# EAGLE library part 690357281276 (library WR-MM)
WR-MM Male SMT Connector w/o Latch & w/o Polarization Material Properties Insulator Material PBT Insulator Flammability Rating UL94 V-0 Insulator Color Red Contact Material Phosphor Bronze Contact Plating Matte Tin over Nickel Contact Type Stamped Packaging Properties cULus Approval E323964 Packaging Tape and Reel General Information Operating Temperature -40 °C up to +105 °C Pitch 2.54 mm Gender Male Electrical Properties Working Voltage 250 V (AC) Withstanding Voltage 500 V (AC) Contact Resistance 10 mΩ RISO 1000 MΩ <https://www.we-online.com/components/media/o33158v209%20Family-WR-MM-69035728xx76.jpg> Details see: www.we-online.com/en/components/products/MM_1_27_SMT_MALE_CONNECTOR_W_O_LATCH_AND_POLARIZATION_69035728XX76 <www.we-online.com/catalog/MM_1_27_SMT_MALE_CONNECTOR_W_O_LATCH_AND_POLARIZATION_69035728XX76/?utm_source=eagle_model&utm_medium=description_link&utm_campaign=eisos_eagle> Updated by Ella 2025-02-28 2025 (C) Würth Elektronik
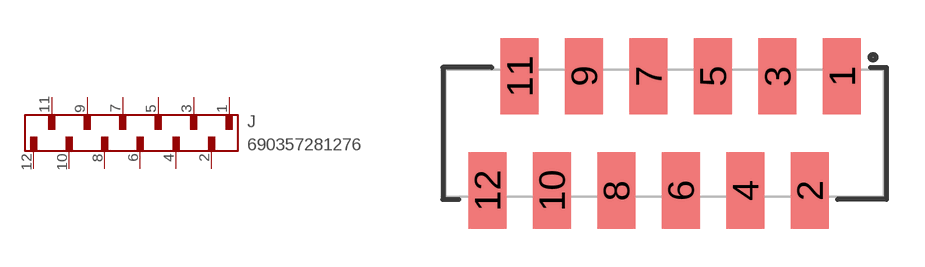
[diagram p27: symbol with the pads of 690357281276; footprint 690357281276]

Designator prefix J

## 690357281276 (DATASHEET-URL: https://www.we-online.com/redexpert/spec/690357281276?ae; GENDER: Male; IR: 1.5A; PACKAGING: Tape and Reel; PART-NUMBER: 690357281276; PINS: 12; PITCH: 2.54; TYPE: Straight; VALUE: 690357281276)  [690357281276]
1  1  pas
2  2  pas
3  3  pas
4  4  pas
5  5  pas
6  6  pas
7  7  pas
8  8  pas
9  9  pas
10  10  pas
11  11  pas
12  12  pas

## Footprint 690357281276 (pad centres in mm)
WR-MM Male SMT Connector w/o Latch & w/o Polarization, 12 pins
smd 1.5 x 3: 1 6.985,2.25; 2 5.715,-2.25; 3 4.445,2.25; 4 3.175,-2.25; 5 1.905,2.25; 6 0.635,-2.25; 7 -0.635,2.25; 8 -1.905,-2.25; 9 -3.175,2.25; 10 -4.445,-2.25; 11 -5.715,2.25; 12 -6.985,-2.25